# Altium footprint library SOD160X80X70L27X30N.PcbLib: 1 footprints
Each footprint in its own frame and in the unit in brackets; x right, y up, seen from the top. Pads: shape width x height; smd on the part's side, far side on the other; paste and mask are expansions set on the pad; w line width, h text height; cw(c..) or ccw(c..) is an arc to the next point about the centre after c.
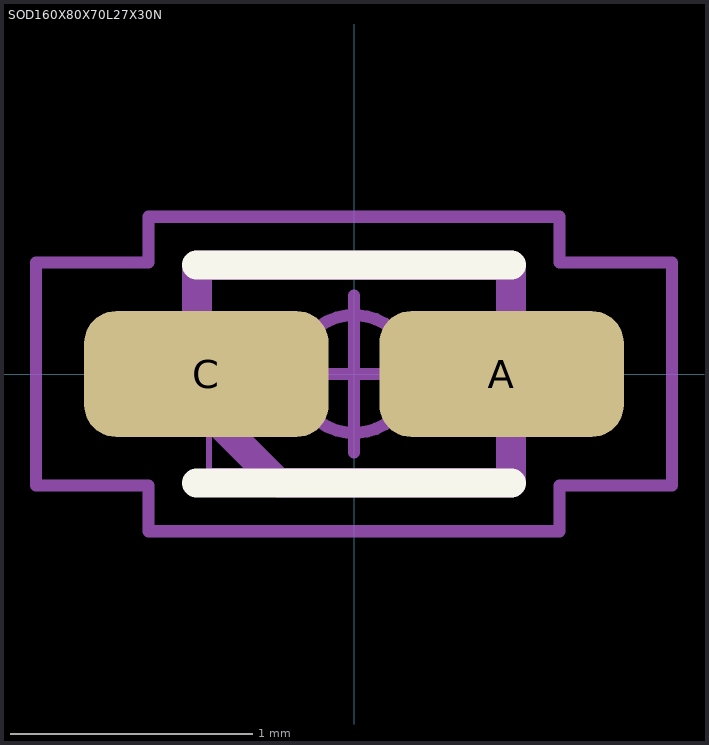
[diagram p0: the footprint, top view; thin cyan lines are the x and y axes]

## SOD160X80X70L27X30N [mm] "Diode, Small Outline Diode (SOD); 1.20 mm L X 0.80 mm W X 0.70 mm H body"
height 0.7
pads (2):
  rrect50% 1.01x0.52 smd: A(0.61,0) C(-0.61,0)
Top Overlay:
  lines w0.12: -0.65,-0.45 0.65,-0.45 ; -0.65,0.45 0.65,0.45
Mechanical 3:
  lines w0.12: -0.65,-0.112 -0.312,-0.45 0.65,-0.45 0.65,0.45 -0.65,0.45 -0.65,-0.112
Mechanical 5:
  lines w0.025: -0.8,-0.15 -0.525,-0.15 -0.525,0.15 -0.8,0.15 -0.8,-0.15 ; -0.6,-0.4 -0.6,0.4 0.6,0.4 0.6,-0.4 -0.6,-0.4 ; 0.525,-0.15 0.525,0.15 0.8,0.15 0.8,-0.15 0.525,-0.15
Mechanical 7:
  circle w0.05: c0,0 r0.244
  lines w0.05: -0.325,0 0.325,0 ; 0,-0.325 0,0.325 ; -1.315,-0.46 -1.315,0.46 -0.85,0.46 -0.85,0.65 0.85,0.65 0.85,0.46 1.315,0.46 1.315,-0.46 0.85,-0.46 0.85,-0.65 -0.85,-0.65 -0.85,-0.46 -1.315,-0.46
Mechanical 9:
  text "'.Designator'" at -5.715,-0.381 h1
3D body "SOD160X80X70L27X30.STEP": height 0.7, standoff 0, extent -0.875,-0.4 0.875,0.4
3D body: height 1, standoff 0, extent -1.315,-0.65 1.315,0.65